# EAGLE library part ICE40HX4K-TQ144 (library SamacSys_Parts)
FPGA - Field Programmable Gate Array Source: Datasheet <https://componentsearchengine.com/Datasheets/1/iCE40HX4K-TQ144.pdf>
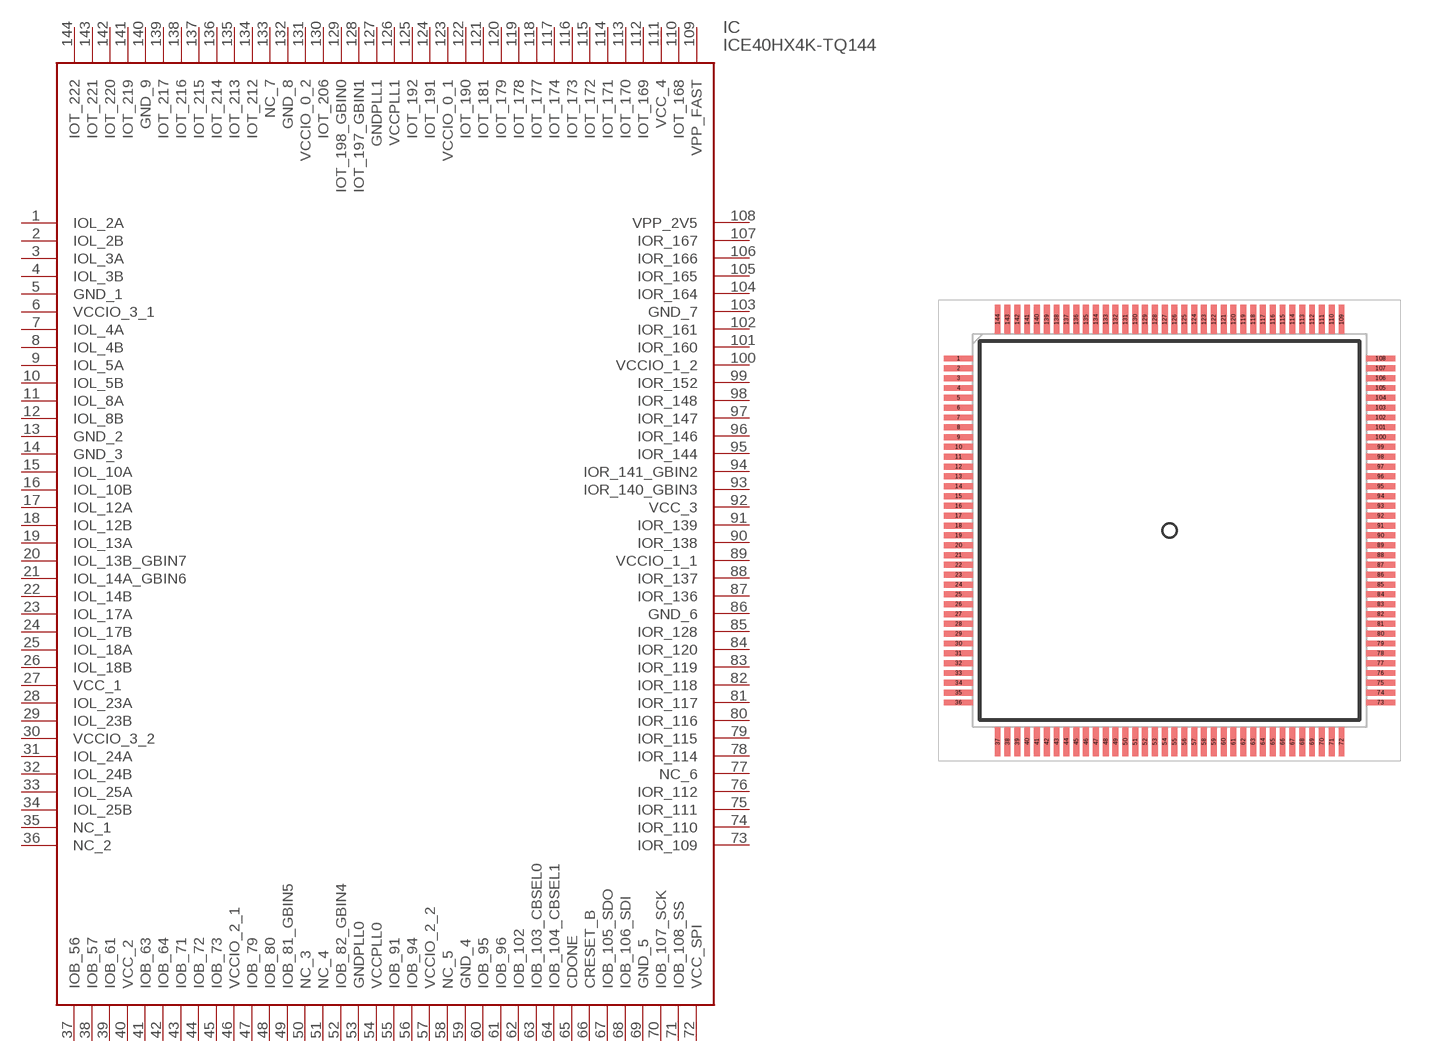
[diagram p128: symbol with the pads of QFP50P2200X2200X160-144N; footprint QFP50P2200X2200X160-144N]

Designator prefix IC

## ICE40HX4K-TQ144 (DESCRIPTION: FPGA - Field Programmable Gate Array; HEIGHT: 1.6mm; MANUFACTURER_NAME: Lattice Semiconductor; MANUFACTURER_PART_NUMBER: iCE40HX4K-TQ144; MOUSER_PART_NUMBER: 842-ICE40HX4K-TQ144; MOUSER_PRICE-STOCK: https://www.mouser.co.uk/ProductDetail/Lattice/iCE40HX4K-TQ144?qs=F9A14TELRMvGNTZXkNDuOw%3D%3D)  [QFP50P2200X2200X160-144N]
1  IOL_2A
2  IOL_2B
3  IOL_3A
4  IOL_3B
5  GND_1
6  VCCIO_3_1
7  IOL_4A
8  IOL_4B
9  IOL_5A
10  IOL_5B
11  IOL_8A
12  IOL_8B
13  GND_2
14  GND_3
15  IOL_10A
16  IOL_10B
17  IOL_12A
18  IOL_12B
19  IOL_13A
20  IOL_13B_GBIN7
21  IOL_14A_GBIN6
22  IOL_14B
23  IOL_17A
24  IOL_17B
25  IOL_18A
26  IOL_18B
27  VCC_1
28  IOL_23A
29  IOL_23B
30  VCCIO_3_2
31  IOL_24A
32  IOL_24B
33  IOL_25A
34  IOL_25B
35  NC_1
36  NC_2
37  IOB_56
38  IOB_57
39  IOB_61
40  VCC_2
41  IOB_63
42  IOB_64
43  IOB_71
44  IOB_72
45  IOB_73
46  VCCIO_2_1
47  IOB_79
48  IOB_80
49  IOB_81_GBIN5
50  NC_3
51  NC_4
52  IOB_82_GBIN4
53  GNDPLL0
54  VCCPLL0
55  IOB_91
56  IOB_94
57  VCCIO_2_2
58  NC_5
59  GND_4
60  IOB_95
61  IOB_96
62  IOB_102
63  IOB_103_CBSEL0
64  IOB_104_CBSEL1
65  CDONE
66  CRESET_B
67  IOB_105_SDO
68  IOB_106_SDI
69  GND_5
70  IOB_107_SCK
71  IOB_108_SS
72  VCC_SPI
73  IOR_109
74  IOR_110
75  IOR_111
76  IOR_112
77  NC_6
78  IOR_114
79  IOR_115
80  IOR_116
81  IOR_117
82  IOR_118
83  IOR_119
84  IOR_120
85  IOR_128
86  GND_6
87  IOR_136
88  IOR_137
89  VCCIO_1_1
90  IOR_138
91  IOR_139
92  VCC_3
93  IOR_140_GBIN3
94  IOR_141_GBIN2
95  IOR_144
96  IOR_146
97  IOR_147
98  IOR_148
99  IOR_152
100  VCCIO_1_2
101  IOR_160
102  IOR_161
103  GND_7
104  IOR_164
105  IOR_165
106  IOR_166
107  IOR_167
108  VPP_2V5
109  VPP_FAST
110  IOT_168
111  VCC_4
112  IOT_169
113  IOT_170
114  IOT_171
115  IOT_172
116  IOT_173
117  IOT_174
118  IOT_177
119  IOT_178
120  IOT_179
121  IOT_181
122  IOT_190
123  VCCIO_0_1
124  IOT_191
125  IOT_192
126  VCCPLL1
127  GNDPLL1
128  IOT_197_GBIN1
129  IOT_198_GBIN0
130  IOT_206
131  VCCIO_0_2
132  GND_8
133  NC_7
134  IOT_212
135  IOT_213
136  IOT_214
137  IOT_215
138  IOT_216
139  IOT_217
140  GND_9
141  IOT_219
142  IOT_220
143  IOT_221
144  IOT_222

## Footprint QFP50P2200X2200X160-144N (pad centres in mm)
144-Pin TQFP Packag
smd 1.475 x 0.3: 1 -10.738,8.75; 2 -10.738,8.25; 3 -10.738,7.75; 4 -10.738,7.25; 5 -10.738,6.75; 6 -10.738,6.25; 7 -10.738,5.75; 8 -10.738,5.25; 9 -10.738,4.75; 10 -10.738,4.25; 11 -10.738,3.75; 12 -10.738,3.25; 13 -10.738,2.75; 14 -10.738,2.25; 15 -10.738,1.75; 16 -10.738,1.25; 17 -10.738,0.75; 18 -10.738,0.25; 19 -10.738,-0.25; 20 -10.738,-0.75; 21 -10.738,-1.25; 22 -10.738,-1.75; 23 -10.738,-2.25; 24 -10.738,-2.75; 25 -10.738,-3.25; 26 -10.738,-3.75; 27 -10.738,-4.25; 28 -10.738,-4.75; 29 -10.738,-5.25; 30 -10.738,-5.75; 31 -10.738,-6.25; 32 -10.738,-6.75; 33 -10.738,-7.25; 34 -10.738,-7.75; 35 -10.738,-8.25; 36 -10.738,-8.75; 73 10.738,-8.75; 74 10.738,-8.25; 75 10.738,-7.75; 76 10.738,-7.25; 77 10.738,-6.75; 78 10.738,-6.25; 79 10.738,-5.75; 80 10.738,-5.25; 81 10.738,-4.75; 82 10.738,-4.25; 83 10.738,-3.75; 84 10.738,-3.25; 85 10.738,-2.75; 86 10.738,-2.25; 87 10.738,-1.75; 88 10.738,-1.25; 89 10.738,-0.75; 90 10.738,-0.25; 91 10.738,0.25; 92 10.738,0.75; 93 10.738,1.25; 94 10.738,1.75; 95 10.738,2.25; 96 10.738,2.75; 97 10.738,3.25; 98 10.738,3.75; 99 10.738,4.25; 100 10.738,4.75; 101 10.738,5.25; 102 10.738,5.75; 103 10.738,6.25; 104 10.738,6.75; 105 10.738,7.25; 106 10.738,7.75; 107 10.738,8.25; 108 10.738,8.75
smd 0.3 x 1.475: 37 -8.75,-10.738; 38 -8.25,-10.738; 39 -7.75,-10.738; 40 -7.25,-10.738; 41 -6.75,-10.738; 42 -6.25,-10.738; 43 -5.75,-10.738; 44 -5.25,-10.738; 45 -4.75,-10.738; 46 -4.25,-10.738; 47 -3.75,-10.738; 48 -3.25,-10.738; 49 -2.75,-10.738; 50 -2.25,-10.738; 51 -1.75,-10.738; 52 -1.25,-10.738; 53 -0.75,-10.738; 54 -0.25,-10.738; 55 0.25,-10.738; 56 0.75,-10.738; 57 1.25,-10.738; 58 1.75,-10.738; 59 2.25,-10.738; 60 2.75,-10.738; 61 3.25,-10.738; 62 3.75,-10.738; 63 4.25,-10.738; 64 4.75,-10.738; 65 5.25,-10.738; 66 5.75,-10.738; 67 6.25,-10.738; 68 6.75,-10.738; 69 7.25,-10.738; 70 7.75,-10.738; 71 8.25,-10.738; 72 8.75,-10.738; 109 8.75,10.738; 110 8.25,10.738; 111 7.75,10.738; 112 7.25,10.738; 113 6.75,10.738; 114 6.25,10.738; 115 5.75,10.738; 116 5.25,10.738; 117 4.75,10.738; 118 4.25,10.738; 119 3.75,10.738; 120 3.25,10.738; 121 2.75,10.738; 122 2.25,10.738; 123 1.75,10.738; 124 1.25,10.738; 125 0.75,10.738; 126 0.25,10.738; 127 -0.25,10.738; 128 -0.75,10.738; 129 -1.25,10.738; 130 -1.75,10.738; 131 -2.25,10.738; 132 -2.75,10.738; 133 -3.25,10.738; 134 -3.75,10.738; 135 -4.25,10.738; 136 -4.75,10.738; 137 -5.25,10.738; 138 -5.75,10.738; 139 -6.25,10.738; 140 -6.75,10.738; 141 -7.25,10.738; 142 -7.75,10.738; 143 -8.25,10.738; 144 -8.75,10.738